# Altium footprint library MOLEX_532610971.PcbLib: 1 footprints
Each footprint in its own frame and in the unit in brackets; x right, y up, seen from the top. Pads: shape width x height; smd on the part's side, far side on the other; paste and mask are expansions set on the pad; w line width, h text height; cw(c..) or ccw(c..) is an arc to the next point about the centre after c.
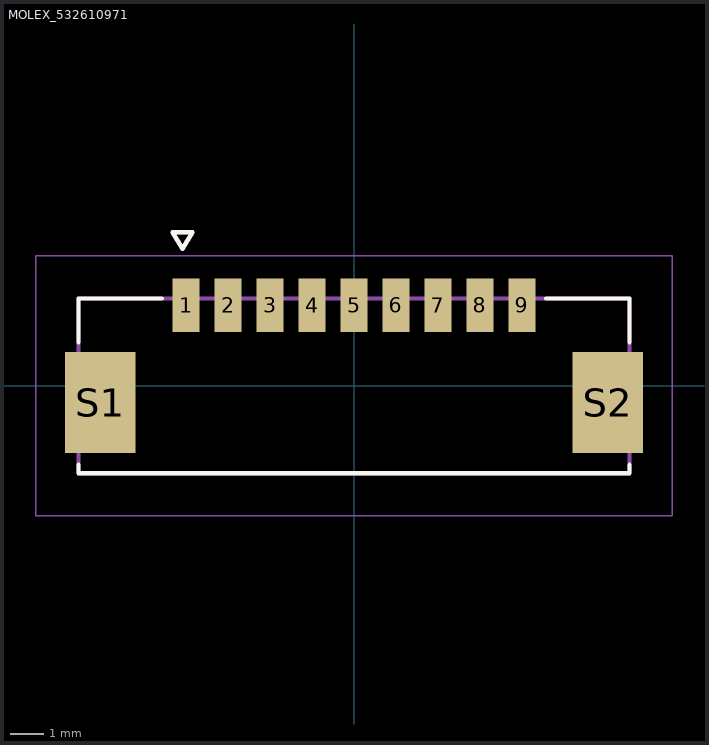
[diagram p0: the footprint, top view; thin cyan lines are the x and y axes]

## MOLEX_532610971 [mm]
height 3.4
pads (11):
  rect 0.8x1.6 smd mask+0.076: 1(-5,2.4) 2(-3.75,2.4) 3(-2.5,2.4) 4(-1.25,2.4) 5(0,2.4) 6(1.25,2.4) 7(2.5,2.4) 8(3.75,2.4) 9(5,2.4)
  rect 2.1x3 smd mask+0.076: S1(-7.55,-0.5) S2(7.55,-0.5)
Top Overlay:
  lines w0.127: -8.2,-2.35 -8.2,-2.6 8.2,-2.6 8.2,-2.35 ; -8.2,1.3 -8.2,2.6 -5.72,2.6 ; 5.72,2.6 8.2,2.6 8.2,1.3 ; -5.405,4.575 -5.105,4.075 -4.805,4.575 -5.405,4.575
Mechanical 13:
  lines w0.127: -8.2,-2.6 -8.2,2.6 8.2,2.6 8.2,-2.6 -8.2,-2.6 ; -5.405,4.575 -5.105,4.075 -4.805,4.575 -5.405,4.575
Mechanical 15:
  lines w0.05: -9.47,-3.87 -9.47,3.87 9.47,3.87 9.47,-3.87 -9.47,-3.87
3D body "532610971.stp": height 3.2, standoff -0.2, extent -8.2,-2.5 8.2,2.7